# Altium footprint library NCV4274CDT50RKG.PcbLib: 2 footprints
Each footprint in its own frame and in the unit in brackets; x right, y up, seen from the top. Pads: shape width x height; smd on the part's side, far side on the other; paste and mask are expansions set on the pad; w line width, h text height; cw(c..) or ccw(c..) is an arc to the next point about the centre after c.
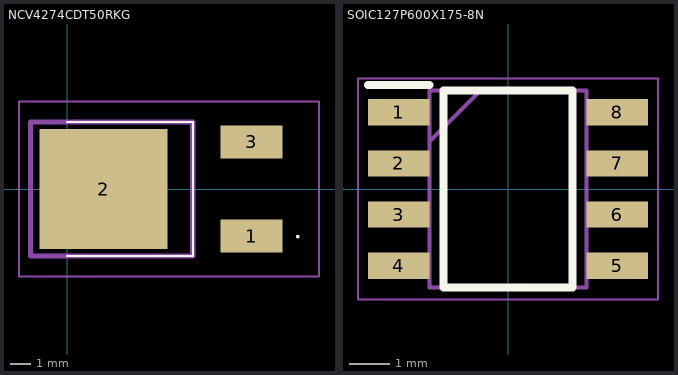
[diagram p0: the footprints below, top view; thin cyan lines are the x and y axes]

## NCV4274CDT50RKG [mm]
pads (3):
  rect 3x1.6 smd: 1(8.95,-2.285) 3(8.95,2.285)
  rect 6.2x5.8 smd: 2(1.77,0)
Top Overlay:
  lines w0.1: 0,-3.25 6.1,-3.25 6.1,3.25 0,3.25 ; 11.148,-2.308 cw(c11.182,-2.308) 11.216,-2.308 cw(c11.182,-2.308) 11.148,-2.308
Mechanical 13:
  lines w0.254: -1.778,-3.25 -1.778,3.25 6.1,3.25 6.1,-3.25 -1.778,-3.25
Mechanical 15:
  lines w0.1: -2.33,-4.25 -2.33,4.25 12.216,4.25 12.216,-4.25 -2.33,-4.25

## SOIC127P600X175-8N [mm]
pads (8):
  rect 1.525x0.65 smd: 1(-2.712,1.905) 2(-2.712,0.635) 3(-2.712,-0.635) 4(-2.712,-1.905) 5(2.712,-1.905) 6(2.712,-0.635) 7(2.712,0.635) 8(2.712,1.905)
Top Overlay:
  lines w0.2: -3.475,2.58 -1.95,2.58 ; -1.6,-2.45 1.6,-2.45 1.6,2.45 -1.6,2.45 -1.6,-2.45
Mechanical 13:
  lines w0.1: -1.95,1.18 -0.68,2.45 ; -1.95,-2.45 1.95,-2.45 1.95,2.45 -1.95,2.45 -1.95,-2.45
Mechanical 15:
  lines w0.05: -3.725,-2.75 3.725,-2.75 3.725,2.75 -3.725,2.75 -3.725,-2.75
3D body "NE555DR.stp": height 1.75, standoff 0, extent -3,-2.45 3,2.45